# Altium footprint library 库1.PcbLib: 12 footprints
Each footprint in its own frame and in the unit in brackets; x right, y up, seen from the top. Pads: shape width x height; smd on the part's side, far side on the other; paste and mask are expansions set on the pad; w line width, h text height; cw(c..) or ccw(c..) is an arc to the next point about the centre after c.
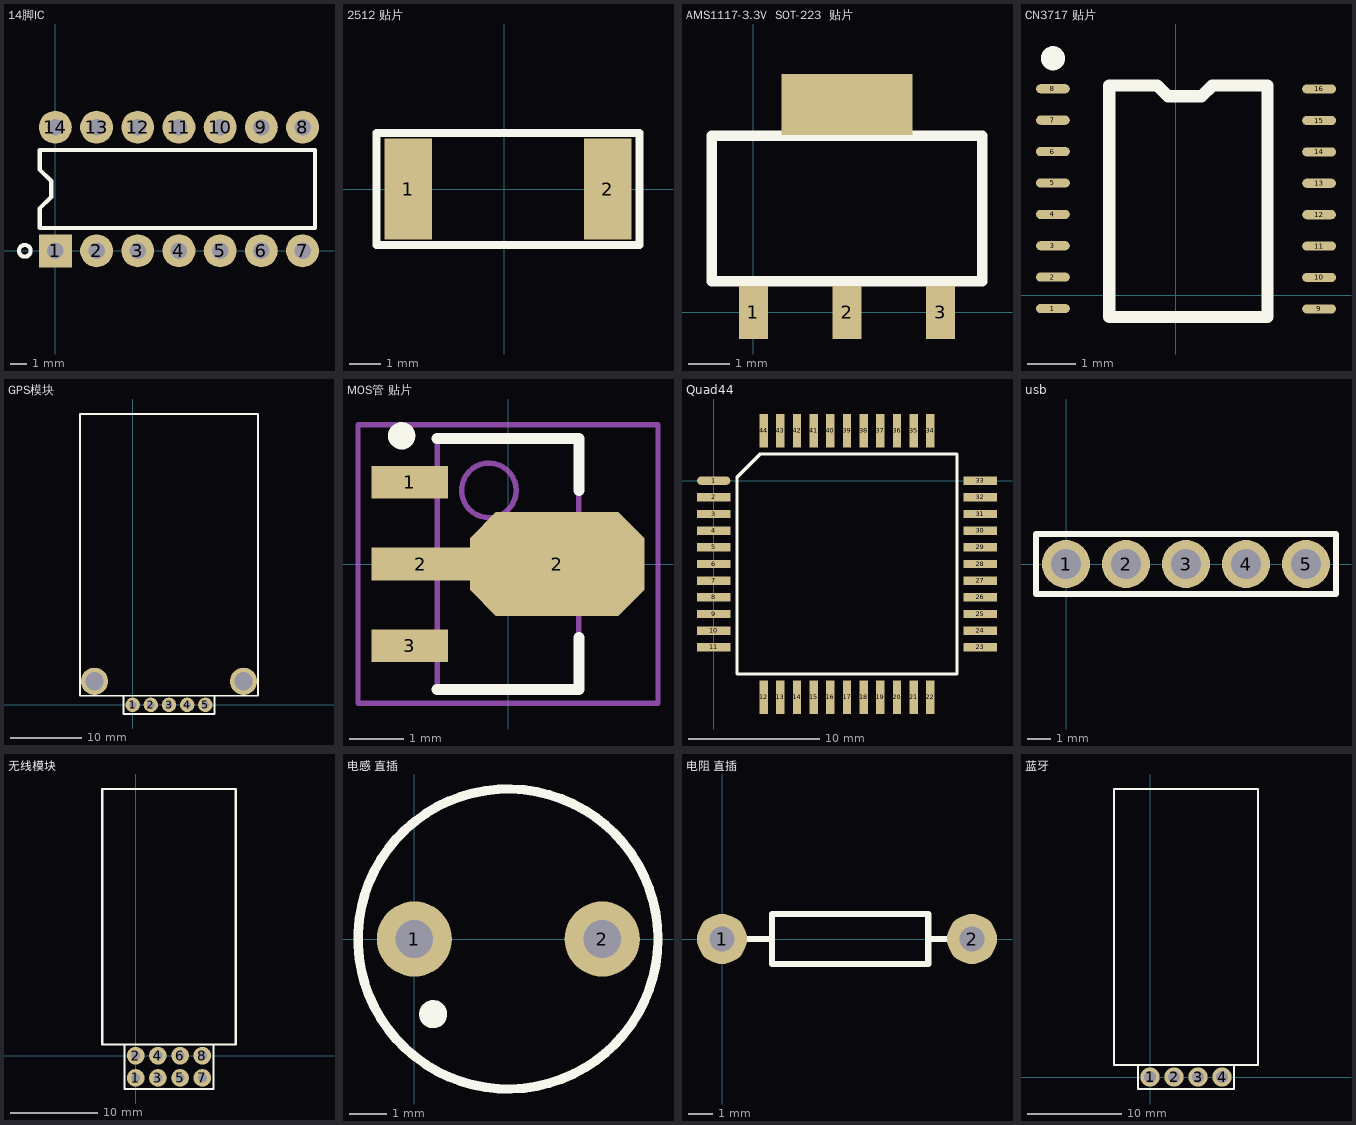
[diagram p0: the footprints below, top view; thin cyan lines are the x and y axes]

## 14脚IC [mil]
pads (14):
  rect 80x80 hole 40: 1(0,0)
  round 80 hole 40: 2(100,0) 3(200,0) 4(300,0) 5(400,0) 6(500,0) 7(600,0) 8(600,300) 9(500,300) 10(400,300) 11(300,300) 12(200,300) 13(100,300) 14(0,300)
Top Overlay:
  circle w10: c-74.14,0 r14.14
  lines w10: -38,55 630,55 630,245 -38,245 -38,197.5 -10,169.5 -10,130.5 -38,102.5 -38,55

## 2512 贴片 [mm]
pads (2):
  rect 1.5x3.2 smd: 1(-3.048,0) 2(3.302,0)
Top Overlay:
  lines w0.254: -4.064,-1.778 4.318,-1.778 4.318,1.778 -4.064,1.778 -4.064,-1.778

## AMS1117-3.3V  SOT-223  贴片 [mm]
pads (4):
  rect 0.7x1.3 smd: 1(0,0) 2(2.286,0) 3(4.572,0)
  rect 3.2x1.5 smd: ""(2.286,5.08)
Top Overlay:
  lines w0.254: -1.016,0.762 -1.016,4.318 5.588,4.318 5.588,0.762 -1.016,0.762

## CN3717 贴片 [mm]
height 1.1
pads (16):
  oval 0.7x0.19 smd: 1(-2.54,-0.279) 2(-2.54,0.371) 3(-2.54,1.021) 4(-2.54,1.671) 5(-2.54,2.321) 6(-2.54,2.971) 7(-2.54,3.621) 8(-2.54,4.271) 9(2.972,-0.286) 10(2.972,0.364) 11(2.972,1.014) 12(2.972,1.664) 13(2.972,2.314) 14(2.972,2.964) 15(2.972,3.614) 16(2.972,4.267)
Top Overlay:
  circle w0.25: c-2.538,4.902 r0.125
  lines w0.254: -1.372,-0.457 1.905,-0.457 1.905,4.338 0.762,4.338 0.539,4.115 0.158,4.115 -0.158,4.115 -0.381,4.338 -0.762,4.338 -1.372,4.338 -1.372,-0.457

## GPS模块 [mil]
pads (7):
  round 80 hole 40: 1(0,0) 2(100,0) 3(200,0) 4(300,0) 5(400,0)
  round 150 hole 100: ""(-210,130) ""(610,130)
Top Overlay:
  lines w10: -50,50 -50,-50 450,-50 450,50 ; -50,50 450,50 ; -50,50 -290,50 -290,1600 690,1600 690,50 450,50

## MOS管 贴片 [mm]
height 1.6
pads (4):
  rect 1.4x0.6 smd: 1(-1.8,1.5) 3(-1.8,-1.5)
  rect 1.8x0.6 smd: 2(-1.6,0)
  oct 3.2x1.9 smd: 2(0.9,0)
Top Overlay:
  circle w0.25: c-1.95,2.35 r0.125
  lines w0.2: -1.3,-2.3 1.3,-2.3 1.3,-1.35 ; -1.3,2.3 1.3,2.3 1.3,1.35
Mechanical 13:
  circle w0.1: c-0.35,1.35 r0.5
  lines w0.1: -1.3,-2.3 1.3,-2.3 1.3,2.3 -1.3,2.3 -1.3,-2.3
Mechanical 15:
  lines w0.1: -0.5,0 0.5,0 ; 0,-0.5 0,0.5 ; -2.75,-2.55 2.75,-2.55 2.75,2.55 -2.75,2.55 -2.75,-2.55
3D body: height 1.6, standoff 0, extent -1.3,-2.3 1.3,2.3

## Quad44 [mil]
pads (44):
  oval 100x25 smd: 1(0,0)
  rect 100x25 smd: 2(0,-50) 3(0,-100) 4(0,-150) 5(0,-200) 6(0,-250) 7(0,-300) 8(0,-350) 9(0,-400) 10(0,-450) 11(0,-500) 23(800,-500) 24(800,-450) 25(800,-400) 26(800,-350) 27(800,-300) 28(800,-250) 29(800,-200) 30(800,-150) 31(800,-100) 32(800,-50) 33(800,0)
  rect 25x100 smd: 12(150,-650) 13(200,-650) 14(250,-650) 15(300,-650) 16(350,-650) 17(400,-650) 18(450,-650) 19(500,-650) 20(550,-650) 21(600,-650) 22(650,-650) 34(650,150) 35(600,150) 36(550,150) 37(500,150) 38(450,150) 39(400,150) 40(350,150) 41(300,150) 42(250,150) 43(200,150) 44(150,150)
Top Overlay:
  lines w10: 70,-580 70,10 140,80 730,80 730,-580 70,-580

## usb [mil]
pads (5):
  round 80 hole 50: 1(0,0) 2(100,0) 3(200,0) 4(300,0) 5(400,0)
Top Overlay:
  lines w10: -50,-50 -50,50 450,50 450,-50 -50,-50

## 无线模块 [mil]
pads (8):
  round 80 hole 40: 1(0,-100) 2(0,0) 3(100,-100) 4(100,0) 5(200,-100) 6(200,0) 7(300,-100) 8(300,0)
Top Overlay:
  lines w10: -50,50 -150,50 -150,1200 450,1200 450,50 350,50 ; -50,50 350,50 ; -50,50 -50,-150 350,-150 350,50

## 电感 直插 [mil]
pads (2):
  round 80 hole 40: 1(0,0) 2(200,0)
Top Overlay:
  circle w10: c99.67,0 r159.67
  circle w10: c20,-80 r10
  lines w10: 10,-80 20,-80 30,-80

## 电阻 直插 [mil]
pads (2):
  round 80 hole 40: 1(0,0) 2(400,0)
Top Overlay:
  lines w10: 0,0 80,0 ; 330,0 400,0 ; 80,-40 330,-40 330,40 80,40 80,30 80,-40

## 蓝牙 [mil]
pads (4):
  round 80 hole 50: 1(0,0) 2(100,0) 3(200,0) 4(300,0)
Top Overlay:
  lines w10: -50,50 -50,-50 350,-50 350,50 ; -50,50 350,50 ; -50,50 -150,50 -150,1200 450,1200 450,50 350,50 ; -50,50 350,50